# Altium footprint library YuHunXP.PcbLib: 22 footprints (part 1 of 2)
Each footprint in its own frame and in the unit in brackets; x right, y up, seen from the top. Pads: shape width x height; smd on the part's side, far side on the other; paste and mask are expansions set on the pad; w line width, h text height; cw(c..) or ccw(c..) is an arc to the next point about the centre after c.
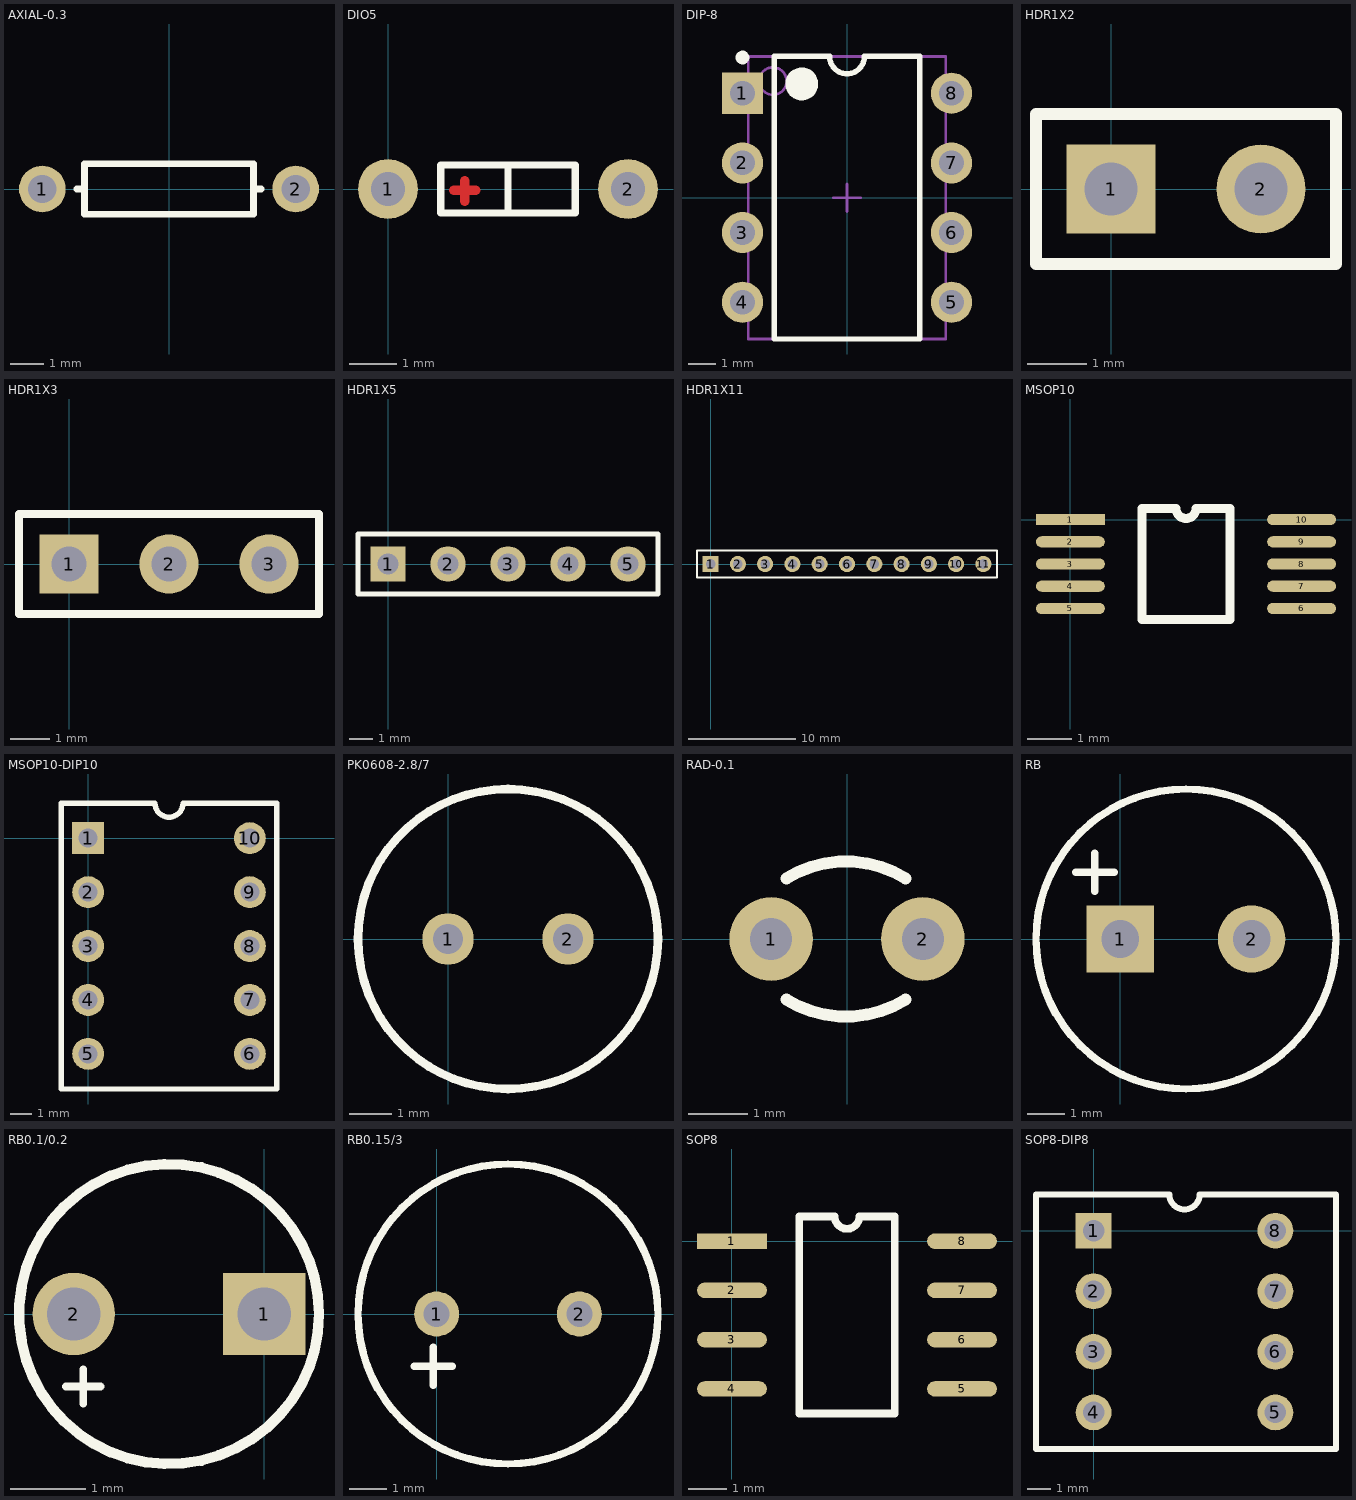
[diagram p0: the footprints below, top view; thin cyan lines are the x and y axes]

## AXIAL-0.3 [mm] "Axial Device, Thru-Hole; 2 Leads; 0.3 in Pin Spacing"
height 1.524
pads (2):
  round 1.4 hole 0.85: 1(-3.81,0) 2(3.81,0)
Top Overlay:
  lines w0.2: -2.769,0 -2.54,0 ; 2.769,0 2.54,0 ; 2.54,0 2.54,-0.762 -2.54,-0.762 -2.54,0.762 2.54,0.762 2.54,0

## DIO5 [mil]
pads (2):
  round 50 hole 28: 1(0,0) 2(200,0)
Top Layer:
  lines w8.03: 55,-1 73,-1 ; 64,-10 64,7
Top Overlay:
  lines w6.06: 100,-19 100,20 ; 44,-20 156,-20 156,20 44,20 44,-20

## DIP-8 [mm] "DIP; 8 Leads; Row Spacing 7.62 mm; Pitch 2.54 mm"
height 5.08
pads (8):
  rect 1.5x1.5 hole 0.9: 1(-3.81,3.81)
  round 1.5 hole 0.9: 2(-3.81,1.27) 3(-3.81,-1.27) 4(-3.81,-3.81) 5(3.81,-3.81) 6(3.81,-1.27) 7(3.81,1.27) 8(3.81,3.81)
Top Overlay:
  circle w0.25: c-3.81,5.11 r0.125
  circle w0.6: c-1.65,4.15 r0.3
  lines w0.2: -2.65,-5.15 -2.65,5.15 -0.635,5.15 ccw(c0,5.15) 0.635,5.15 2.65,5.15 2.65,-5.15 -2.65,-5.15
Mechanical 13:
  circle w0.1: c-2.7,4.25 r0.5
  lines w0.1: -3.6,-5.15 -3.6,5.15 3.6,5.15 3.6,-5.15 -3.6,-5.15
Mechanical 15:
  lines w0.1: -0.5,0 0.5,0 ; 0,-0.5 0,0.5
3D body: height 5.08, standoff 0, extent -3.6,-5.15 3.6,5.15

## HDR1X2 [mm] "Connector; Header; 2 Position"
height 12
pads (2):
  rect 1.5x1.5 hole 0.9: 1(0,0)
  round 1.5 hole 0.9: 2(2.54,0)
Top Overlay:
  lines w0.2: -1.27,-1.27 3.81,-1.27 3.81,1.27 -1.27,1.27 -1.27,-1.27

## HDR1X3 [mm] "Connector; Header; 3 Position"
height 12
pads (3):
  rect 1.5x1.5 hole 0.9: 1(0,0)
  round 1.5 hole 0.9: 2(2.54,0) 3(5.08,0)
Top Overlay:
  lines w0.2: -1.27,-1.27 -1.27,1.27 6.35,1.27 6.35,-1.27 -1.27,-1.27

## HDR1X5 [mm] "Connector; Header; 5 Position"
height 12
pads (5):
  rect 1.5x1.5 hole 0.9: 1(0,0)
  round 1.5 hole 0.9: 2(2.54,0) 3(5.08,0) 4(7.62,0) 5(10.16,0)
Top Overlay:
  lines w0.2: -1.27,-1.27 -1.27,1.27 11.43,1.27 11.43,-1.27 -1.27,-1.27

## HDR1X11 [mm] "Connector; Header; 11 Position"
height 12
pads (11):
  rect 1.5x1.5 hole 0.9: 1(0,0)
  round 1.5 hole 0.9: 2(2.54,0) 3(5.08,0) 4(7.62,0) 5(10.16,0) 6(12.7,0) 7(15.24,0) 8(17.78,0) 9(20.32,0) 10(22.86,0) 11(25.4,0)
Top Overlay:
  lines w0.2: -1.27,-1.27 -1.27,1.27 0.635,1.27 26.67,1.27 26.67,-1.27 -1.27,-1.27

## MSOP10 [mm] "脚距0.5mm"
pads (10):
  rect 1.55x0.25 smd: 1(0,0)
  oval 1.55x0.25 smd: 2(0,-0.5) 3(0,-1) 4(0,-1.5) 5(0,-2) 6(5.2,-2) 7(5.2,-1.5) 8(5.2,-1) 9(5.2,-0.5) 10(5.2,0)
Top Overlay:
  lines w0.2: 1.61,0.25 1.61,-2.25 3.59,-2.25 3.59,0.25 ; 1.626,0.25 2.362,0.25 ; 2.375,0.25 ccw(c2.6,0.25) 2.825,0.25 ; 2.819,0.25 3.581,0.25

## MSOP10-DIP10 [mm] "MSOP10转DIP的转接板"
pads (10):
  rect 1.5x1.5 hole 0.9: 1(0,0)
  round 1.5 hole 0.9: 2(0,-2.54) 3(0,-5.08) 4(0,-7.62) 5(0,-10.16) 6(7.62,-10.16) 7(7.62,-7.62) 8(7.62,-5.08) 9(7.62,-2.54) 10(7.62,0)
Top Overlay:
  lines w0.254: -1.27,-11.811 -1.27,1.651 3.148,1.651 ccw(c3.81,1.651) 4.472,1.651 8.89,1.651 8.89,-11.811 -1.27,-11.811

## PK0608-2.8/7 [mm]
pads (2):
  round 1.2 hole 0.7: 1(0,0) 2(2.8,0)
Top Overlay:
  circle w0.2: c1.4,0 r3.5

## RAD-0.1 [mm] "瓷片电容-无极"
height 6
pads (2):
  round 1.4 hole 0.7: 1(-1.27,0) 2(1.27,0)
Top Overlay:
  lines w0.2: -1.016,-1.016 ccw(c-0.018,0.606) 0.981,-1.016 ; -1.016,1.016 cw(c-0.018,-0.606) 0.981,1.016

## RB [mm] "35V 220UF电容"
height 12
pads (2):
  rect 1.8x1.8 hole 1: 1(0,0)
  round 1.8 hole 1: 2(3.5,0)
Top Overlay:
  circle w0.2: c1.75,0 r4
  lines w0.2: -1.185,1.778 -0.169,1.778 ; -0.677,1.27 -0.677,2.286

## RB0.1/0.2 [mm]
pads (2):
  rect 1.1x1.1 hole 0.711: 1(0,0)
  round 1.1 hole 0.711: 2(-2.54,0)
Top Overlay:
  circle w0.14: c-1.27,0 r2
  lines w0.104: -2.642,-0.965 -2.184,-0.965 ; -2.413,-1.194 -2.413,-0.737

## RB0.15/3 [mm]
pads (2):
  round 1.2 hole 0.7: 1(0,0) 2(3.81,0)
Top Overlay:
  circle w0.2: c1.905,0 r4
  lines w0.2: -0.597,-1.397 0.419,-1.397 ; -0.089,-1.905 -0.089,-0.889

## SOP8 [mm] "脚距1.27mm"
pads (8):
  rect 1.8x0.4 smd: 1(0,0)
  oval 1.8x0.4 smd: 2(0,-1.27) 3(0,-2.54) 4(0,-3.81) 5(5.93,-3.81) 6(5.93,-2.54) 7(5.93,-1.27) 8(5.93,0)
Top Overlay:
  lines w0.2: 1.735,-4.445 1.735,0.635 2.648,0.635 ccw(c2.965,0.635) 3.283,0.635 4.195,0.635 4.195,-4.445 1.735,-4.445

## SOP8-DIP8 [mm] "SOP8-DIP8转接板"
pads (8):
  rect 1.5x1.5 hole 0.9: 1(0,0)
  round 1.5 hole 0.9: 2(0,-2.54) 3(0,-5.08) 4(0,-7.62) 5(7.62,-7.62) 6(7.62,-5.08) 7(7.62,-2.54) 8(7.62,0)
Top Overlay:
  lines w0.254: -2.413,-9.144 10.16,-9.144 10.16,1.524 4.445,1.524 cw(c3.81,1.524) 3.175,1.524 -2.413,1.524 -2.413,-9.144